# Altium footprint library Alimentation.PcbLib: 27 footprints (part 1 of 2)
Each footprint in its own frame and in the unit in brackets; x right, y up, seen from the top. Pads: shape width x height; smd on the part's side, far side on the other; paste and mask are expansions set on the pad; w line width, h text height; cw(c..) or ccw(c..) is an arc to the next point about the centre after c.
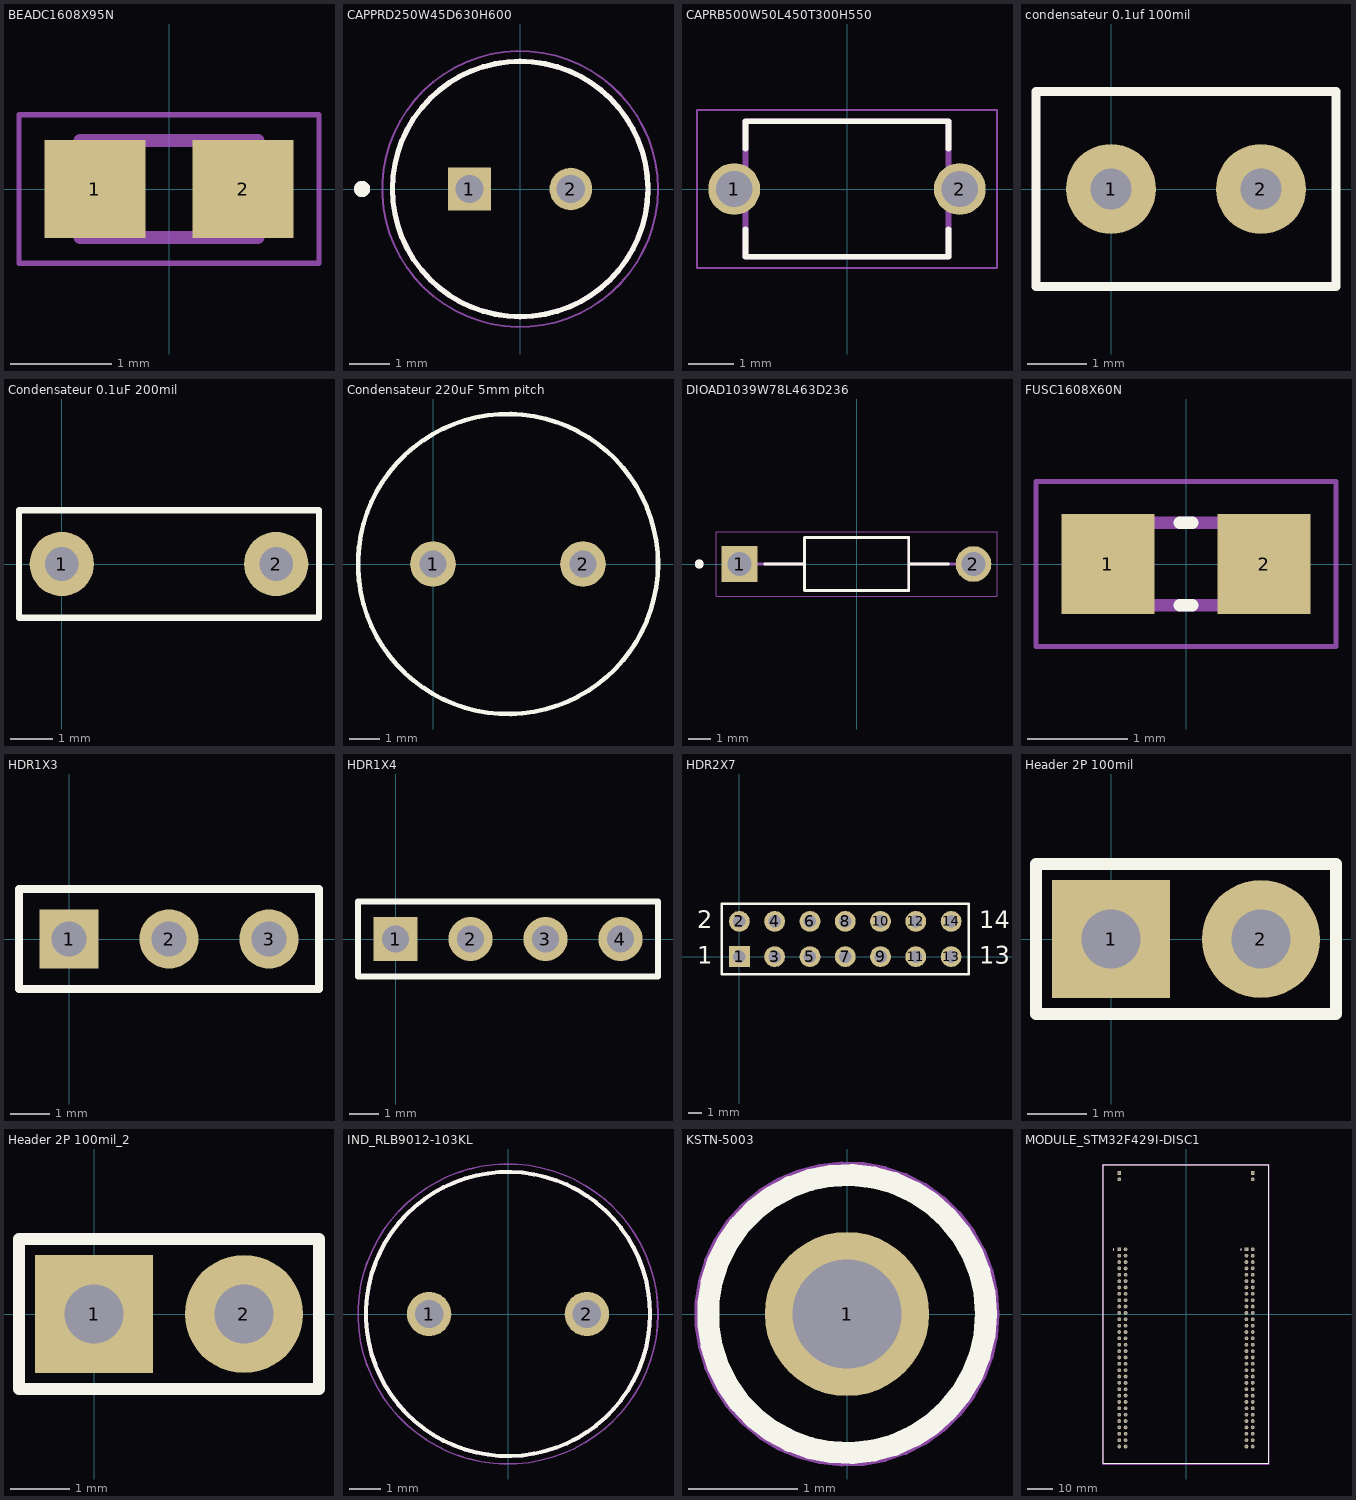
[diagram p0: the footprints below, top view; thin cyan lines are the x and y axes]

## BEADC1608X95N [mm]
pads (2):
  rect 1x0.97 smd: 1(-0.735,0) 2(0.735,0)
Mechanical 13:
  lines w0.127: -0.88,-0.48 -0.88,0.48 0.88,0.48 0.88,-0.48 -0.88,-0.48
Mechanical 15:
  lines w0.05: -1.485,-0.735 -1.485,0.735 1.485,0.735 1.485,-0.735 -1.485,-0.735
3D body "step_temp.STEP": height 0.95, standoff 0, extent -0.8,-0.4 0.8,0.4

## CAPPRD250W45D630H600 [mm]
pads (2):
  rect 1.05x1.05 / inner rect 1.05x1.05 / far side rect 1.35x1.35 hole 0.7: 1(-1.25,0)
  round 1.05 / inner round 1.05 / far side rect 1.35x1.35 hole 0.7: 2(1.25,0)
Top Overlay:
  circle w0.2: c-3.9,0 r0.1
  circle w0.127: c0,0 r3.15
Mechanical 13:
  circle w0.2: c-3.9,0 r0.1
  circle w0.127: c0,0 r3.15
Mechanical 15:
  circle w0.05: c0,0 r3.4
3D body "step_temp.STEP": height 6, standoff -19, extent -3.15,-3.15 3.15,3.15

## CAPRB500W50L450T300H550 [mm]
pads (2):
  round 1.15 / inner round 1.15 / far side rect 1.85x1.85 hole 0.8: 1(-2.5,0) 2(2.5,0)
Top Overlay:
  lines w0.127: -2.25,-0.895 -2.25,-1.5 2.25,-1.5 2.25,-0.895 ; -2.25,0.895 -2.25,1.5 2.25,1.5 2.25,0.895
Mechanical 13:
  lines w0.127: -2.25,-1.5 2.25,-1.5 2.25,1.5 -2.25,1.5 -2.25,-1.5
Mechanical 15:
  lines w0.05: -3.325,-1.75 3.325,-1.75 3.325,1.75 -3.325,1.75 -3.325,-1.75
3D body "step_temp.STEP": height 5.5, standoff -7, extent -2.75,-1.5 2.75,1.5

## condensateur 0.1uf 100mil [mil] "condensateur 0.1uf 100mil, Thru hole"
pads (2):
  round 60 / inner round 60 / far side rect 60x60 hole 27.56: 1(0,0) 2(100,0)
Top Overlay:
  lines w6: -50,-65 150,-65 150,65 -50,65 -50,-65
3D body "125100.stp": height 309.45, standoff -255.91, extent -50,-63 150,62.4

## Condensateur 0.1uF 200mil [mil] "Condensateur 0.1uF 200mil radial"
pads (2):
  round 60 / inner round 60 / far side rect 72.83x72.83 hole 31.5: 1(0,0) 2(200,0)
Top Overlay:
  lines w6: -40,-50 -40,50 240,50 240,-50 -40,-50
3D body "User Library-CAPML200 (2_5x6_6).STEP": height 359.84, standoff -148.32, extent -39.24,-51.17 239.26,51.19

## Condensateur 220uF 5mm pitch [mil] "Condensateur 220uF 5mm pitch,  10mm X 12mm"
pads (2):
  round 60 hole 35.43: 1(0,0) 2(196.85,0)
Top Overlay:
  circle w6: c98.43,0 r196.85
3D body "User Library-Cap-EL(10x12-5)T.STEP": height 492.2, standoff -137.8, extent -98.42,-196.74 295.36,196.75

## DIOAD1039W78L463D236 [mm]
height 2.72
pads (2):
  rect 1.59x1.59 / inner round 1.59 / far side rect 1.85x1.85 hole 1.06: 1(-5.197,0)
  round 1.59 / inner round 1.59 / far side rect 1.85x1.85 hole 1.06: 2(5.197,0)
Top Overlay:
  circle w0.2: c-6.992,0 r0.1
  lines w0.127: -4.082,0 -2.318,0 ; 4.082,0 2.318,0 ; -2.318,0 -2.318,-1.18 2.318,-1.18 2.318,0 ; -2.318,0 -2.318,1.18 2.318,1.18 2.318,0
Mechanical 13:
  circle w0.2: c-6.992,0 r0.1
  lines w0.127: -5.197,0 -2.318,0 ; 5.197,0 2.318,0 ; -2.318,0 -2.318,-1.18 2.318,-1.18 2.318,0 ; -2.318,0 -2.318,1.18 2.318,1.18 2.318,0
Mechanical 15:
  lines w0.05: -6.242,-1.43 6.242,-1.43 6.242,1.43 -6.242,1.43 -6.242,-1.43
3D body "step_temp.STEP": height 2.69, standoff -21.77, extent -5.474,-1.346 5.474,1.346

## FUSC1608X60N [mm]
height 0.6
pads (2):
  rect 0.92x0.99 smd: 1(-0.775,0) 2(0.775,0)
Top Overlay:
  lines w0.127: -0.06,-0.41 0.06,-0.41 ; -0.06,0.41 0.06,0.41
Mechanical 13:
  lines w0.127: -0.8,-0.41 -0.8,0.41 0.8,0.41 0.8,-0.41 -0.8,-0.41
Mechanical 15:
  lines w0.05: -1.49,-0.82 1.49,-0.82 1.49,0.82 -1.49,0.82 -1.49,-0.82
3D body "step_temp.STEP": height 0.6, standoff 0, extent -0.8,-0.41 0.8,0.41

## HDR1X3 [mm] "Connector; Header; 3 Position"
pads (3):
  rect 1.5x1.5 hole 0.9: 1(0,0)
  round 1.5 hole 0.9: 2(2.54,0) 3(5.08,0)
Top Overlay:
  lines w0.2: -1.27,-1.27 -1.27,1.27 6.35,1.27 6.35,-1.27 -1.27,-1.27

## HDR1X4 [mm] "Connector; Header; 4 Position"
pads (4):
  rect 1.5x1.5 hole 0.9: 1(0,0)
  round 1.5 / inner round 1.5 / far side rect 1.5x1.5 hole 0.9: 2(2.54,0) 3(5.08,0) 4(7.62,0)
Top Overlay:
  lines w0.2: -1.27,-1.27 8.89,-1.27 8.89,1.27 -1.27,1.27 -1.27,-1.27

## HDR2X7 [mm] "Connector; Header; 7x2 Position"
pads (14):
  rect 1.5x1.5 hole 0.9: 1(0,0)
  round 1.5 hole 0.9: 2(0,2.54) 3(2.54,0) 4(2.54,2.54) 5(5.08,0) 6(5.08,2.54) 7(7.62,0) 8(7.62,2.54) 9(10.16,0) 10(10.16,2.54) 11(12.7,0) 12(12.7,2.54) 13(15.24,0) 14(15.24,2.54)
Top Overlay:
  lines w0.2: -1.27,-1.27 -1.27,3.81 16.51,3.81 16.51,-1.27 -1.27,-1.27
  text "2" at -3.048,2.032 h1.27
  text "1" at -3.048,-0.508 h1.27
  text "14" at 17.272,2.032 h1.27
  text "13" at 17.272,-0.508 h1.27

## Header 2P 100mil [mm] "Header male"
pads (2):
  rect 2x2 hole 1: 1(0,0)
  round 2 / inner round 2 / far side rect 2x2 hole 1: 2(2.54,0)
Top Overlay:
  lines w0.2: -1.27,-1.27 -1.27,1.27 3.81,1.27 3.81,-1.27 -1.27,-1.27
3D body "61300211121_Download_STP_61300211121_rev1.stp": height 8.59, standoff -2.95, extent -1.27,-1.27 3.81,1.27

## Header 2P 100mil_2 [mm]
pads (2):
  rect 2x2 hole 1: 1(0,0)
  round 2 / inner round 2 / far side rect 2x2 hole 1: 2(2.54,0)
Top Overlay:
  lines w0.2: -1.27,-1.27 3.81,-1.27 3.81,1.27 -1.27,1.27 -1.27,-1.27
3D body "61300211121_Download_STP_61300211121_rev1.stp": height 8.59, standoff -2.95, extent -1.27,-1.27 3.81,1.27

## IND_RLB9012-103KL [mm]
height 12.2
pads (2):
  round 1.408 / inner round 1.408 / far side rect 1.85x1.85 hole 0.9: 1(-2.5,0) 2(2.5,0)
Top Overlay:
  circle w0.127: c0,0 r4.5
Mechanical 13:
  circle w0.127: c0,0 r4.5
Mechanical 15:
  circle w0.05: c0,0 r4.75
3D body "step_temp.STEP": height 12.2, standoff -30, extent -4.5,-4.5 4.5,4.5

## KSTN-5003 [mm] "Test Point, Through Hole, Dia 2.54mm"
height 4.57
pads (1):
  round 1.5 hole 1: 1(0,0)
Top Overlay:
  circle w0.2: c0,0 r1.27
Mechanical 13:
  circle w0.1: c0,0 r1.27
Mechanical 15:
  circle w0.05: c0,0 r1.37
  lines w0.1: -0.5,0 0.5,0 ; 0,-0.5 0,0.5
3D body "User Library-Test Point Keystone - 5003 ORANGE.STEP": height 4.57, standoff -3.05, extent -1.27,-1.27 1.27,1.27

## MODULE_STM32F429I-DISC1 [mm]
pads (132):
  rect 1.5x1.5 hole 1: JP1_1(-26.67,56.31) JP2_1(26.67,56.31) P1_1(-26.67,25.83) P2_1(24.13,25.83)
  round 1.5 hole 1: JP1_2(-26.67,53.77) JP2_2(26.67,53.77) P1_2(-24.13,25.83) P1_3(-26.67,23.29) P1_4(-24.13,23.29) P1_5(-26.67,20.75) P1_6(-24.13,20.75) P1_7(-26.67,18.21) P1_8(-24.13,18.21) P1_9(-26.67,15.67) P1_10(-24.13,15.67) P1_11(-26.67,13.13) P1_12(-24.13,13.13) P1_13(-26.67,10.59) P1_14(-24.13,10.59) P1_15(-26.67,8.05) P1_16(-24.13,8.05) P1_17(-26.67,5.51) P1_18(-24.13,5.51) P1_19(-26.67,2.97) P1_20(-24.13,2.97) P1_21(-26.67,0.43) P1_22(-24.13,0.43) P1_23(-26.67,-2.11) P1_24(-24.13,-2.11) P1_25(-26.67,-4.65) P1_26(-24.13,-4.65) P1_27(-26.67,-7.19) P1_28(-24.13,-7.19) P1_29(-26.67,-9.73) P1_30(-24.13,-9.73) P1_31(-26.67,-12.27) P1_32(-24.13,-12.27) P1_33(-26.67,-14.81) P1_34(-24.13,-14.81) P1_35(-26.67,-17.35) P1_36(-24.13,-17.35) P1_37(-26.67,-19.89) P1_38(-24.13,-19.89) P1_39(-26.67,-22.43) P1_40(-24.13,-22.43) P1_41(-26.67,-24.97) P1_42(-24.13,-24.97) P1_43(-26.67,-27.51) P1_44(-24.13,-27.51) P1_45(-26.67,-30.05) P1_46(-24.13,-30.05) P1_47(-26.67,-32.59) P1_48(-24.13,-32.59) P1_49(-26.67,-35.13) P1_50(-24.13,-35.13) P1_51(-26.67,-37.67) P1_52(-24.13,-37.67) P1_53(-26.67,-40.21) P1_54(-24.13,-40.21) P1_55(-26.67,-42.75) P1_56(-24.13,-42.75) P1_57(-26.67,-45.29) P1_58(-24.13,-45.29) P1_59(-26.67,-47.83) P1_60(-24.13,-47.83) P1_61(-26.67,-50.37) P1_62(-24.13,-50.37) P1_63(-26.67,-52.91) P1_64(-24.13,-52.91) P2_2(26.67,25.83) P2_3(24.13,23.29) P2_4(26.67,23.29) P2_5(24.13,20.75) P2_6(26.67,20.75) P2_7(24.13,18.21) P2_8(26.67,18.21) P2_9(24.13,15.67) P2_10(26.67,15.67) P2_11(24.13,13.13) P2_12(26.67,13.13) P2_13(24.13,10.59) P2_14(26.67,10.59) P2_15(24.13,8.05) P2_16(26.67,8.05) P2_17(24.13,5.51) P2_18(26.67,5.51) P2_19(24.13,2.97) P2_20(26.67,2.97) P2_21(24.13,0.43) P2_22(26.67,0.43) P2_23(24.13,-2.11) P2_24(26.67,-2.11) P2_25(24.13,-4.65) P2_26(26.67,-4.65) P2_27(24.13,-7.19) P2_28(26.67,-7.19) P2_29(24.13,-9.73) P2_30(26.67,-9.73) P2_31(24.13,-12.27) P2_32(26.67,-12.27) P2_33(24.13,-14.81) P2_34(26.67,-14.81) P2_35(24.13,-17.35) P2_36(26.67,-17.35) P2_37(24.13,-19.89) P2_38(26.67,-19.89) P2_39(24.13,-22.43) P2_40(26.67,-22.43) P2_41(24.13,-24.97) P2_42(26.67,-24.97) P2_43(24.13,-27.51) P2_44(26.67,-27.51) P2_45(24.13,-30.05) P2_46(26.67,-30.05) P2_47(24.13,-32.59) P2_48(26.67,-32.59) P2_49(24.13,-35.13) P2_50(26.67,-35.13) P2_51(24.13,-37.67) P2_52(26.67,-37.67) P2_53(24.13,-40.21) P2_54(26.67,-40.21) P2_55(24.13,-42.75) P2_56(26.67,-42.75) P2_57(24.13,-45.29) P2_58(26.67,-45.29) P2_59(24.13,-47.83) P2_60(26.67,-47.83) P2_61(24.13,-50.37) P2_62(26.67,-50.37) P2_63(24.13,-52.91) P2_64(26.67,-52.91)
Top Overlay:
  circle w0.2: c-29,25.77 r0.1
  circle w0.2: c22,25.77 r0.1
  lines w0.127: -33,-59.65 -33,59.65 33,59.65 33,-59.65 -33,-59.65
Mechanical 13:
  circle w0.2: c-29,25.77 r0.1
  circle w0.2: c22,25.77 r0.1
  lines w0.127: -33,-59.65 -33,59.65 33,59.65 33,-59.65 -33,-59.65
Mechanical 15:
  lines w0.05: -33.25,-59.9 -33.25,59.9 33.25,59.9 33.25,-59.9 -33.25,-59.9